# Altium schematic symbol library Components - 23.10.24 - 13.46.SchLib: 1 symbol
Pins are listed as number, name and electrical type; pins without a type are passive.

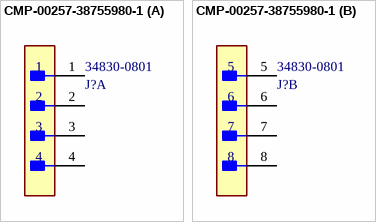
[diagram p0: symbol CMP-00257-38755980-1]

## CMP-00257-38755980-1
designator J?, comment 34830-0801
34830-0801 MX150 2x4 Dual Row Right-Angle Header, 8 Circuits, Keying Option A, Black, Solder Tail; NexarPartId: 38755980; Manufacturer Lifecycle Status: ACTIVE; Number of Positions: 8; Connector Type: Male Pin; Pitch: 3.5052mm; Voltage Rating: 14V; Plating: Tin; Termination: Solder; Number of Rows: 2; RoHS: Compliant; Contact Material: Nickel, Tin; Mount: Through Hole; Contact Plating: Tin; Height: 25.42mm; Color: Black; Max Operating Temperature: 125°C; Fastening Type: Ramp; Number of Circuits: 8; Radiation Hardening: No; Schedule B: 8536694040; Orientation: Right Angle; Min Operating Temperature: -40°C; Lifecycle Status: Production; Number of Contacts: 8; Country of Origin: CN
footprint PCBComponent_1
part A pins: 1, 2, 3, 4
part B pins: 5, 6, 7, 8